# Altium footprint library STM32G441KBT3.PcbLib: 3 footprints
Each footprint in its own frame and in the unit in brackets; x right, y up, seen from the top. Pads: shape width x height; smd on the part's side, far side on the other; paste and mask are expansions set on the pad; w line width, h text height; cw(c..) or ccw(c..) is an arc to the next point about the centre after c.
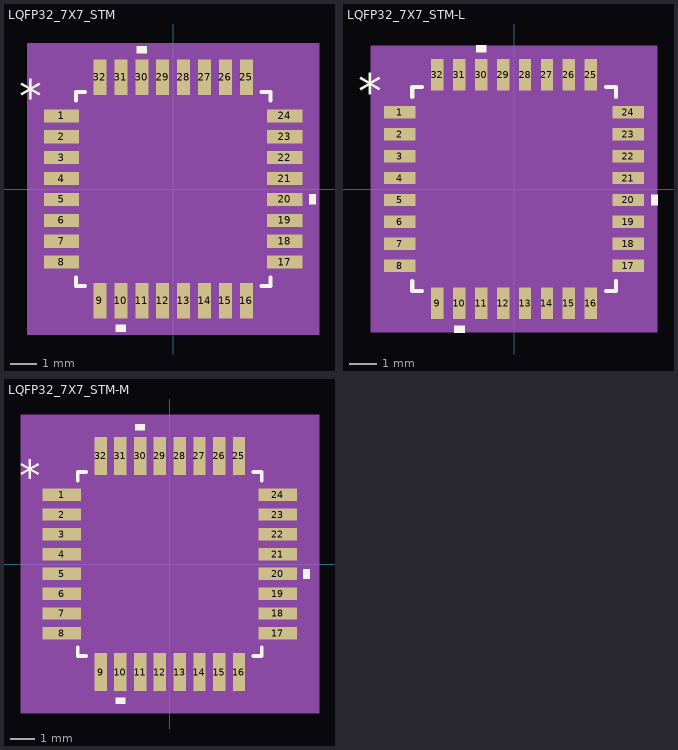
[diagram p0: the footprints below, top view; thin cyan lines are the x and y axes]

## LQFP32_7X7_STM [mm]
pads (32):
  rect 1.353x0.5 smd paste+0 mask+0: 1(-4.271,2.8) 2(-4.271,2) 3(-4.271,1.2) 4(-4.271,0.4) 5(-4.271,-0.4) 6(-4.271,-1.2) 7(-4.271,-2) 8(-4.271,-2.8) 17(4.271,-2.8) 18(4.271,-2) 19(4.271,-1.2) 20(4.271,-0.4) 21(4.271,0.4) 22(4.271,1.2) 23(4.271,2) 24(4.271,2.8)
  rect 0.5x1.353 smd paste+0 mask+0: 9(-2.8,-4.271) 10(-2,-4.271) 11(-1.2,-4.271) 12(-0.4,-4.271) 13(0.4,-4.271) 14(1.2,-4.271) 15(2,-4.271) 16(2.8,-4.271) 25(2.8,4.271) 26(2,4.271) 27(1.2,4.271) 28(0.4,4.271) 29(-0.4,4.271) 30(-1.2,4.271) 31(-2,4.271) 32(-2.8,4.271)
Top Overlay:
  region: -1.81,-5.201 -2.191,-5.201 -2.191,-5.455 -1.81,-5.455
  region: 5.201,-0.209 5.455,-0.209 5.455,-0.59 5.201,-0.59
  region: -1.01,5.201 -1.391,5.201 -1.391,5.455 -1.01,5.455
  lines w0.152: -3.721,-3.383 -3.721,-3.721 -3.383,-3.721 ; -3.721,3.383 -3.721,3.721 -3.383,3.721 ; 3.383,-3.721 3.721,-3.721 3.721,-3.383 ; 3.383,3.721 3.721,3.721 3.721,3.383
  text "*" at -5.9,2.946 h1.27
Mechanical 5:
  region: 5.582,-5.582 -5.582,-5.582 -5.582,5.582 5.582,5.582
Mechanical 13:
  lines w0.025: -3.594,2.324 -2.324,3.594 ; -4.597,-3.025 -4.597,-2.575 -3.594,-2.575 -3.594,-3.025 -4.597,-3.025 ; -4.597,-2.225 -4.597,-1.775 -3.594,-1.775 -3.594,-2.225 -4.597,-2.225 ; -4.597,-1.425 -4.597,-0.975 -3.594,-0.975 -3.594,-1.425 -4.597,-1.425 ; -4.597,-0.625 -4.597,-0.175 -3.594,-0.175 -3.594,-0.625 -4.597,-0.625 ; -4.597,0.175 -4.597,0.625 -3.594,0.625 -3.594,0.175 -4.597,0.175 ; -4.597,0.975 -4.597,1.425 -3.594,1.425 -3.594,0.975 -4.597,0.975 ; -4.597,1.775 -4.597,2.225 -3.594,2.225 -3.594,1.775 -4.597,1.775 ; -4.597,2.575 -4.597,3.025 -3.594,3.025 -3.594,2.575 -4.597,2.575 ; -3.594,-3.594 -3.594,3.594 3.594,3.594 3.594,-3.594 -3.594,-3.594 ; -3.025,-4.597 -3.025,-3.594 -2.575,-3.594 -2.575,-4.597 -3.025,-4.597 ; -3.025,3.594 -2.575,3.594 -2.575,4.597 -3.025,4.597 -3.025,3.594 ; -2.225,-4.597 -2.225,-3.594 -1.775,-3.594 -1.775,-4.597 -2.225,-4.597 ; -2.225,3.594 -1.775,3.594 -1.775,4.597 -2.225,4.597 -2.225,3.594 ; -1.425,-4.597 -1.425,-3.594 -0.975,-3.594 -0.975,-4.597 -1.425,-4.597 ; -1.425,3.594 -0.975,3.594 -0.975,4.597 -1.425,4.597 -1.425,3.594 ; -0.625,-4.597 -0.625,-3.594 -0.175,-3.594 -0.175,-4.597 -0.625,-4.597 ; -0.625,3.594 -0.175,3.594 -0.175,4.597 -0.625,4.597 -0.625,3.594 ; 0.175,-4.597 0.175,-3.594 0.625,-3.594 0.625,-4.597 0.175,-4.597 ; 0.175,3.594 0.625,3.594 0.625,4.597 0.175,4.597 0.175,3.594 ; 0.975,-4.597 0.975,-3.594 1.425,-3.594 1.425,-4.597 0.975,-4.597 ; 0.975,3.594 1.425,3.594 1.425,4.597 0.975,4.597 0.975,3.594 ; 1.775,-4.597 1.775,-3.594 2.225,-3.594 2.225,-4.597 1.775,-4.597 ; 1.775,3.594 2.225,3.594 2.225,4.597 1.775,4.597 1.775,3.594 ; 2.575,-4.597 2.575,-3.594 3.025,-3.594 3.025,-4.597 2.575,-4.597 ; 2.575,3.594 3.025,3.594 3.025,4.597 2.575,4.597 2.575,3.594 ; 3.594,-3.025 3.594,-2.575 4.597,-2.575 4.597,-3.025 3.594,-3.025 ; 3.594,-2.225 3.594,-1.775 4.597,-1.775 4.597,-2.225 3.594,-2.225 ; 3.594,-1.425 3.594,-0.975 4.597,-0.975 4.597,-1.425 3.594,-1.425 ; 3.594,-0.625 3.594,-0.175 4.597,-0.175 4.597,-0.625 3.594,-0.625 ; 3.594,0.175 3.594,0.625 4.597,0.625 4.597,0.175 3.594,0.175 ; 3.594,0.975 3.594,1.425 4.597,1.425 4.597,0.975 3.594,0.975 ; 3.594,1.775 3.594,2.225 4.597,2.225 4.597,1.775 3.594,1.775 ; 3.594,2.575 3.594,3.025 4.597,3.025 4.597,2.575 3.594,2.575
  text "*" at -3.531,2.565 h1.27
Mechanical 15:
  region: -3.304,-3.848 -3.848,-3.848 -3.848,-3.304 -5.201,-3.304 -5.201,3.304 -3.848,3.304 -3.848,3.848 -3.304,3.848 -3.304,5.201 3.304,5.201 3.304,3.848 3.848,3.848 3.848,3.304 5.201,3.304 5.201,-3.304 3.848,-3.304 3.848,-3.848 3.304,-3.848 3.304,-5.201 -3.304,-5.201
  lines w0.152: -5.201,-3.304 -3.848,-3.304 -3.848,-3.848 -3.304,-3.848 -3.304,-5.201 3.304,-5.201 3.304,-3.848 3.848,-3.848 3.848,-3.304 5.201,-3.304 5.201,3.304 3.848,3.304 3.848,3.848 3.304,3.848 3.304,5.201 -3.304,5.201 -3.304,3.848 -3.848,3.848 -3.848,3.304 -5.201,3.304 -5.201,-3.304
3D body "LQFP32_7X7_STM.step": height 1.6, standoff 0, extent -4.597,-4.597 4.597,4.597

## LQFP32_7X7_STM-L [mm]
pads (32):
  rect 1.153x0.45 smd paste+0 mask+0: 1(-4.171,2.8) 2(-4.171,2) 3(-4.171,1.2) 4(-4.171,0.4) 5(-4.171,-0.4) 6(-4.171,-1.2) 7(-4.171,-2) 8(-4.171,-2.8) 17(4.171,-2.8) 18(4.171,-2) 19(4.171,-1.2) 20(4.171,-0.4) 21(4.171,0.4) 22(4.171,1.2) 23(4.171,2) 24(4.171,2.8)
  rect 0.45x1.153 smd paste+0 mask+0: 9(-2.8,-4.171) 10(-2,-4.171) 11(-1.2,-4.171) 12(-0.4,-4.171) 13(0.4,-4.171) 14(1.2,-4.171) 15(2,-4.171) 16(2.8,-4.171) 25(2.8,4.171) 26(2,4.171) 27(1.2,4.171) 28(0.4,4.171) 29(-0.4,4.171) 30(-1.2,4.171) 31(-2,4.171) 32(-2.8,4.171)
Top Overlay:
  region: -1.81,-5.001 -2.191,-5.001 -2.191,-5.255 -1.81,-5.255
  region: 5.001,-0.209 5.255,-0.209 5.255,-0.59 5.001,-0.59
  region: -1.01,5.001 -1.391,5.001 -1.391,5.255 -1.01,5.255
  lines w0.152: -3.721,-3.358 -3.721,-3.721 -3.358,-3.721 ; -3.721,3.358 -3.721,3.721 -3.358,3.721 ; 3.358,-3.721 3.721,-3.721 3.721,-3.358 ; 3.358,3.721 3.721,3.721 3.721,3.358
  text "*" at -5.7,2.946 h1.27
Mechanical 5:
  region: 5.23,-5.23 -5.23,-5.23 -5.23,5.23 5.23,5.23
Mechanical 13:
  lines w0.025: -3.594,2.324 -2.324,3.594 ; -4.597,-3.025 -4.597,-2.575 -3.594,-2.575 -3.594,-3.025 -4.597,-3.025 ; -4.597,-2.225 -4.597,-1.775 -3.594,-1.775 -3.594,-2.225 -4.597,-2.225 ; -4.597,-1.425 -4.597,-0.975 -3.594,-0.975 -3.594,-1.425 -4.597,-1.425 ; -4.597,-0.625 -4.597,-0.175 -3.594,-0.175 -3.594,-0.625 -4.597,-0.625 ; -4.597,0.175 -4.597,0.625 -3.594,0.625 -3.594,0.175 -4.597,0.175 ; -4.597,0.975 -4.597,1.425 -3.594,1.425 -3.594,0.975 -4.597,0.975 ; -4.597,1.775 -4.597,2.225 -3.594,2.225 -3.594,1.775 -4.597,1.775 ; -4.597,2.575 -4.597,3.025 -3.594,3.025 -3.594,2.575 -4.597,2.575 ; -3.594,-3.594 -3.594,3.594 3.594,3.594 3.594,-3.594 -3.594,-3.594 ; -3.025,-4.597 -3.025,-3.594 -2.575,-3.594 -2.575,-4.597 -3.025,-4.597 ; -3.025,3.594 -2.575,3.594 -2.575,4.597 -3.025,4.597 -3.025,3.594 ; -2.225,-4.597 -2.225,-3.594 -1.775,-3.594 -1.775,-4.597 -2.225,-4.597 ; -2.225,3.594 -1.775,3.594 -1.775,4.597 -2.225,4.597 -2.225,3.594 ; -1.425,-4.597 -1.425,-3.594 -0.975,-3.594 -0.975,-4.597 -1.425,-4.597 ; -1.425,3.594 -0.975,3.594 -0.975,4.597 -1.425,4.597 -1.425,3.594 ; -0.625,-4.597 -0.625,-3.594 -0.175,-3.594 -0.175,-4.597 -0.625,-4.597 ; -0.625,3.594 -0.175,3.594 -0.175,4.597 -0.625,4.597 -0.625,3.594 ; 0.175,-4.597 0.175,-3.594 0.625,-3.594 0.625,-4.597 0.175,-4.597 ; 0.175,3.594 0.625,3.594 0.625,4.597 0.175,4.597 0.175,3.594 ; 0.975,-4.597 0.975,-3.594 1.425,-3.594 1.425,-4.597 0.975,-4.597 ; 0.975,3.594 1.425,3.594 1.425,4.597 0.975,4.597 0.975,3.594 ; 1.775,-4.597 1.775,-3.594 2.225,-3.594 2.225,-4.597 1.775,-4.597 ; 1.775,3.594 2.225,3.594 2.225,4.597 1.775,4.597 1.775,3.594 ; 2.575,-4.597 2.575,-3.594 3.025,-3.594 3.025,-4.597 2.575,-4.597 ; 2.575,3.594 3.025,3.594 3.025,4.597 2.575,4.597 2.575,3.594 ; 3.594,-3.025 3.594,-2.575 4.597,-2.575 4.597,-3.025 3.594,-3.025 ; 3.594,-2.225 3.594,-1.775 4.597,-1.775 4.597,-2.225 3.594,-2.225 ; 3.594,-1.425 3.594,-0.975 4.597,-0.975 4.597,-1.425 3.594,-1.425 ; 3.594,-0.625 3.594,-0.175 4.597,-0.175 4.597,-0.625 3.594,-0.625 ; 3.594,0.175 3.594,0.625 4.597,0.625 4.597,0.175 3.594,0.175 ; 3.594,0.975 3.594,1.425 4.597,1.425 4.597,0.975 3.594,0.975 ; 3.594,1.775 3.594,2.225 4.597,2.225 4.597,1.775 3.594,1.775 ; 3.594,2.575 3.594,3.025 4.597,3.025 4.597,2.575 3.594,2.575
  text "*" at -3.531,2.565 h1.27
Mechanical 15:
  region: -3.127,-3.696 -3.696,-3.696 -3.696,-3.127 -4.849,-3.127 -4.849,3.127 -3.696,3.127 -3.696,3.696 -3.127,3.696 -3.127,4.849 3.127,4.849 3.127,3.696 3.696,3.696 3.696,3.127 4.849,3.127 4.849,-3.127 3.696,-3.127 3.696,-3.696 3.127,-3.696 3.127,-4.849 -3.127,-4.849
  lines w0.152: -4.849,-3.127 -3.696,-3.127 -3.696,-3.696 -3.127,-3.696 -3.127,-4.849 3.127,-4.849 3.127,-3.696 3.696,-3.696 3.696,-3.127 4.849,-3.127 4.849,3.127 3.696,3.127 3.696,3.696 3.127,3.696 3.127,4.849 -3.127,4.849 -3.127,3.696 -3.696,3.696 -3.696,3.127 -4.849,3.127 -4.849,-3.127
3D body "LQFP32_7X7_STM.step": height 1.6, standoff 0, extent -4.597,-4.597 4.597,4.597

## LQFP32_7X7_STM-M [mm]
pads (32):
  rect 1.553x0.5 smd paste+0 mask+0: 1(-4.371,2.8) 2(-4.371,2) 3(-4.371,1.2) 4(-4.371,0.4) 5(-4.371,-0.4) 6(-4.371,-1.2) 7(-4.371,-2) 8(-4.371,-2.8) 17(4.371,-2.8) 18(4.371,-2) 19(4.371,-1.2) 20(4.371,-0.4) 21(4.371,0.4) 22(4.371,1.2) 23(4.371,2) 24(4.371,2.8)
  rect 0.5x1.553 smd paste+0 mask+0: 9(-2.8,-4.371) 10(-2,-4.371) 11(-1.2,-4.371) 12(-0.4,-4.371) 13(0.4,-4.371) 14(1.2,-4.371) 15(2,-4.371) 16(2.8,-4.371) 25(2.8,4.371) 26(2,4.371) 27(1.2,4.371) 28(0.4,4.371) 29(-0.4,4.371) 30(-1.2,4.371) 31(-2,4.371) 32(-2.8,4.371)
Top Overlay:
  region: -1.81,-5.401 -2.191,-5.401 -2.191,-5.655 -1.81,-5.655
  region: 5.401,-0.209 5.655,-0.209 5.655,-0.59 5.401,-0.59
  region: -1.01,5.401 -1.391,5.401 -1.391,5.655 -1.01,5.655
  lines w0.152: -3.721,-3.383 -3.721,-3.721 -3.383,-3.721 ; -3.721,3.383 -3.721,3.721 -3.383,3.721 ; 3.383,-3.721 3.721,-3.721 3.721,-3.383 ; 3.383,3.721 3.721,3.721 3.721,3.383
  text "*" at -6.1,2.946 h1.27
Mechanical 5:
  region: 6.036,-6.036 -6.036,-6.036 -6.036,6.036 6.036,6.036
Mechanical 13:
  lines w0.025: -3.594,2.324 -2.324,3.594 ; -4.597,-3.025 -4.597,-2.575 -3.594,-2.575 -3.594,-3.025 -4.597,-3.025 ; -4.597,-2.225 -4.597,-1.775 -3.594,-1.775 -3.594,-2.225 -4.597,-2.225 ; -4.597,-1.425 -4.597,-0.975 -3.594,-0.975 -3.594,-1.425 -4.597,-1.425 ; -4.597,-0.625 -4.597,-0.175 -3.594,-0.175 -3.594,-0.625 -4.597,-0.625 ; -4.597,0.175 -4.597,0.625 -3.594,0.625 -3.594,0.175 -4.597,0.175 ; -4.597,0.975 -4.597,1.425 -3.594,1.425 -3.594,0.975 -4.597,0.975 ; -4.597,1.775 -4.597,2.225 -3.594,2.225 -3.594,1.775 -4.597,1.775 ; -4.597,2.575 -4.597,3.025 -3.594,3.025 -3.594,2.575 -4.597,2.575 ; -3.594,-3.594 -3.594,3.594 3.594,3.594 3.594,-3.594 -3.594,-3.594 ; -3.025,-4.597 -3.025,-3.594 -2.575,-3.594 -2.575,-4.597 -3.025,-4.597 ; -3.025,3.594 -2.575,3.594 -2.575,4.597 -3.025,4.597 -3.025,3.594 ; -2.225,-4.597 -2.225,-3.594 -1.775,-3.594 -1.775,-4.597 -2.225,-4.597 ; -2.225,3.594 -1.775,3.594 -1.775,4.597 -2.225,4.597 -2.225,3.594 ; -1.425,-4.597 -1.425,-3.594 -0.975,-3.594 -0.975,-4.597 -1.425,-4.597 ; -1.425,3.594 -0.975,3.594 -0.975,4.597 -1.425,4.597 -1.425,3.594 ; -0.625,-4.597 -0.625,-3.594 -0.175,-3.594 -0.175,-4.597 -0.625,-4.597 ; -0.625,3.594 -0.175,3.594 -0.175,4.597 -0.625,4.597 -0.625,3.594 ; 0.175,-4.597 0.175,-3.594 0.625,-3.594 0.625,-4.597 0.175,-4.597 ; 0.175,3.594 0.625,3.594 0.625,4.597 0.175,4.597 0.175,3.594 ; 0.975,-4.597 0.975,-3.594 1.425,-3.594 1.425,-4.597 0.975,-4.597 ; 0.975,3.594 1.425,3.594 1.425,4.597 0.975,4.597 0.975,3.594 ; 1.775,-4.597 1.775,-3.594 2.225,-3.594 2.225,-4.597 1.775,-4.597 ; 1.775,3.594 2.225,3.594 2.225,4.597 1.775,4.597 1.775,3.594 ; 2.575,-4.597 2.575,-3.594 3.025,-3.594 3.025,-4.597 2.575,-4.597 ; 2.575,3.594 3.025,3.594 3.025,4.597 2.575,4.597 2.575,3.594 ; 3.594,-3.025 3.594,-2.575 4.597,-2.575 4.597,-3.025 3.594,-3.025 ; 3.594,-2.225 3.594,-1.775 4.597,-1.775 4.597,-2.225 3.594,-2.225 ; 3.594,-1.425 3.594,-0.975 4.597,-0.975 4.597,-1.425 3.594,-1.425 ; 3.594,-0.625 3.594,-0.175 4.597,-0.175 4.597,-0.625 3.594,-0.625 ; 3.594,0.175 3.594,0.625 4.597,0.625 4.597,0.175 3.594,0.175 ; 3.594,0.975 3.594,1.425 4.597,1.425 4.597,0.975 3.594,0.975 ; 3.594,1.775 3.594,2.225 4.597,2.225 4.597,1.775 3.594,1.775 ; 3.594,2.575 3.594,3.025 4.597,3.025 4.597,2.575 3.594,2.575
  text "*" at -3.531,2.565 h1.27
Mechanical 15:
  region: -3.558,-4.102 -4.102,-4.102 -4.102,-3.558 -5.655,-3.558 -5.655,3.558 -4.102,3.558 -4.102,4.102 -3.558,4.102 -3.558,5.655 3.558,5.655 3.558,4.102 4.102,4.102 4.102,3.558 5.655,3.558 5.655,-3.558 4.102,-3.558 4.102,-4.102 3.558,-4.102 3.558,-5.655 -3.558,-5.655
  lines w0.152: -5.655,-3.558 -4.102,-3.558 -4.102,-4.102 -3.558,-4.102 -3.558,-5.655 3.558,-5.655 3.558,-4.102 4.102,-4.102 4.102,-3.558 5.655,-3.558 5.655,3.558 4.102,3.558 4.102,4.102 3.558,4.102 3.558,5.655 -3.558,5.655 -3.558,4.102 -4.102,4.102 -4.102,3.558 -5.655,3.558 -5.655,-3.558
3D body "LQFP32_7X7_STM.step": height 1.6, standoff 0, extent -4.597,-4.597 4.597,4.597